# Altium footprint library ADCLK854BCPZ.PcbLib: 3 footprints
Each footprint in its own frame and in the unit in brackets; x right, y up, seen from the top. Pads: shape width x height; smd on the part's side, far side on the other; paste and mask are expansions set on the pad; w line width, h text height; cw(c..) or ccw(c..) is an arc to the next point about the centre after c.
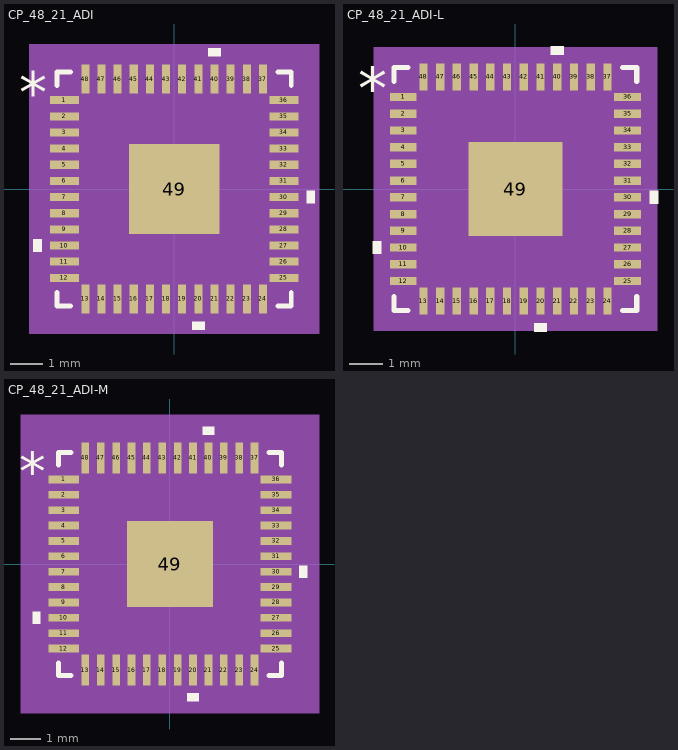
[diagram p0: the footprints below, top view; thin cyan lines are the x and y axes]

## CP_48_21_ADI [mm]
pads (49):
  rect 0.9x0.25 smd paste+0 mask+0: 1(-3.4,2.75) 2(-3.4,2.25) 3(-3.4,1.75) 4(-3.4,1.25) 5(-3.4,0.75) 6(-3.4,0.25) 7(-3.4,-0.25) 8(-3.4,-0.75) 9(-3.4,-1.25) 10(-3.4,-1.75) 11(-3.4,-2.25) 12(-3.4,-2.75) 25(3.4,-2.75) 26(3.4,-2.25) 27(3.4,-1.75) 28(3.4,-1.25) 29(3.4,-0.75) 30(3.4,-0.25) 31(3.4,0.25) 32(3.4,0.75) 33(3.4,1.25) 34(3.4,1.75) 35(3.4,2.25) 36(3.4,2.75)
  rect 0.25x0.9 smd paste+0 mask+0: 13(-2.75,-3.4) 14(-2.25,-3.4) 15(-1.75,-3.4) 16(-1.25,-3.4) 17(-0.75,-3.4) 18(-0.25,-3.4) 19(0.25,-3.4) 20(0.75,-3.4) 21(1.25,-3.4) 22(1.75,-3.4) 23(2.25,-3.4) 24(2.75,-3.4) 37(2.75,3.4) 38(2.25,3.4) 39(1.75,3.4) 40(1.25,3.4) 41(0.75,3.4) 42(0.25,3.4) 43(-0.25,3.4) 44(-0.75,3.4) 45(-1.25,3.4) 46(-1.75,3.4) 47(-2.25,3.4) 48(-2.75,3.4)
  rect 2.8x2.8 smd paste-1.387 mask+0: 49(0,0)
Top Overlay:
  region: -4.104,-1.559 -4.358,-1.559 -4.358,-1.94 -4.104,-1.94
  region: 0.941,-4.104 0.56,-4.104 0.56,-4.358 0.941,-4.358
  region: 4.104,-0.059 4.358,-0.059 4.358,-0.44 4.104,-0.44
  region: 1.441,4.104 1.06,4.104 1.06,4.358 1.441,4.358
  lines w0.152: -3.627,-3.208 -3.627,-3.627 -3.208,-3.627 ; -3.627,3.208 -3.627,3.627 -3.208,3.627 ; 3.208,-3.627 3.627,-3.627 3.627,-3.208 ; 3.208,3.627 3.627,3.627 3.627,3.208
  text "*" at -4.802,2.365 h1.27
Top Paste:
  region: -0.1,1.3 -1.3,1.3 -1.3,0.1 -0.1,0.1
  region: -0.1,-0.1 -1.3,-0.1 -1.3,-1.3 -0.1,-1.3
  region: 1.3,1.3 0.1,1.3 0.1,0.1 1.3,0.1
  region: 1.3,-0.1 0.1,-0.1 0.1,-1.3 1.3,-1.3
Mechanical 5:
  region: 4.485,-4.485 -4.485,-4.485 -4.485,4.485 4.485,4.485
Mechanical 13:
  drawing of 201 lines, arcs and shapes, not listed
  text "*" at -3.267,2.365 h1.27
Mechanical 15:
  region: -3.129,-3.754 -3.754,-3.754 -3.754,-3.129 -4.104,-3.129 -4.104,3.129 -3.754,3.129 -3.754,3.754 -3.129,3.754 -3.129,4.104 3.129,4.104 3.129,3.754 3.754,3.754 3.754,3.129 4.104,3.129 4.104,-3.129 3.754,-3.129 3.754,-3.754 3.129,-3.754 3.129,-4.104 -3.129,-4.104
  lines w0.152: -4.104,-3.129 -3.754,-3.129 -3.754,-3.754 -3.129,-3.754 -3.129,-4.104 3.129,-4.104 3.129,-3.754 3.754,-3.754 3.754,-3.129 4.104,-3.129 4.104,3.129 3.754,3.129 3.754,3.754 3.129,3.754 3.129,4.104 -3.129,4.104 -3.129,3.754 -3.754,3.754 -3.754,3.129 -4.104,3.129 -4.104,-3.129
3D body "CP_48_21_ADI.step": height 0.8, standoff 0, extent -3.55,-3.55 3.55,3.55

## CP_48_21_ADI-L [mm]
pads (49):
  rect 0.803x0.249 smd paste+0 mask+0: 1(-3.352,2.75) 2(-3.352,2.25) 3(-3.352,1.75) 4(-3.352,1.25) 5(-3.352,0.75) 6(-3.352,0.25) 7(-3.352,-0.25) 8(-3.352,-0.75) 9(-3.352,-1.25) 10(-3.352,-1.75) 11(-3.352,-2.25) 12(-3.352,-2.75) 25(3.352,-2.75) 26(3.352,-2.25) 27(3.352,-1.75) 28(3.352,-1.25) 29(3.352,-0.75) 30(3.352,-0.25) 31(3.352,0.25) 32(3.352,0.75) 33(3.352,1.25) 34(3.352,1.75) 35(3.352,2.25) 36(3.352,2.75)
  rect 0.249x0.803 smd paste+0 mask+0: 13(-2.75,-3.352) 14(-2.25,-3.352) 15(-1.75,-3.352) 16(-1.25,-3.352) 17(-0.75,-3.352) 18(-0.25,-3.352) 19(0.25,-3.352) 20(0.75,-3.352) 21(1.25,-3.352) 22(1.75,-3.352) 23(2.25,-3.352) 24(2.75,-3.352) 37(2.75,3.352) 38(2.25,3.352) 39(1.75,3.352) 40(1.25,3.352) 41(0.75,3.352) 42(0.25,3.352) 43(-0.25,3.352) 44(-0.75,3.352) 45(-1.25,3.352) 46(-1.75,3.352) 47(-2.25,3.352) 48(-2.75,3.352)
  rect 2.8x2.8 smd paste-1.387 mask+0: 49(0,0)
Top Overlay:
  region: -4.007,-1.559 -4.261,-1.559 -4.261,-1.94 -4.007,-1.94
  region: 0.941,-4.007 0.56,-4.007 0.56,-4.261 0.941,-4.261
  region: 4.007,-0.059 4.261,-0.059 4.261,-0.44 4.007,-0.44
  region: 1.441,4.007 1.06,4.007 1.06,4.261 1.441,4.261
  lines w0.152: -3.627,-3.207 -3.627,-3.627 -3.207,-3.627 ; -3.627,3.207 -3.627,3.627 -3.207,3.627 ; 3.207,-3.627 3.627,-3.627 3.627,-3.207 ; 3.207,3.627 3.627,3.627 3.627,3.207
  text "*" at -4.706,2.365 h1.27
Top Paste:
  region: -0.1,1.3 -1.3,1.3 -1.3,0.1 -0.1,0.1
  region: -0.1,-0.1 -1.3,-0.1 -1.3,-1.3 -0.1,-1.3
  region: 1.3,1.3 0.1,1.3 0.1,0.1 1.3,0.1
  region: 1.3,-0.1 0.1,-0.1 0.1,-1.3 1.3,-1.3
Mechanical 5:
  region: 4.236,-4.236 -4.236,-4.236 -4.236,4.236 4.236,4.236
Mechanical 13:
  drawing of 201 lines, arcs and shapes, not listed
  text "*" at -3.267,2.365 h1.27
Mechanical 15:
  region: -2.976,-3.602 -3.602,-3.602 -3.602,-2.976 -3.855,-2.976 -3.855,2.976 -3.602,2.976 -3.602,3.602 -2.976,3.602 -2.976,3.855 2.976,3.855 2.976,3.602 3.602,3.602 3.602,2.976 3.855,2.976 3.855,-2.976 3.602,-2.976 3.602,-3.602 2.976,-3.602 2.976,-3.855 -2.976,-3.855
  lines w0.152: -3.855,-2.976 -3.602,-2.976 -3.602,-3.602 -2.976,-3.602 -2.976,-3.855 2.976,-3.855 2.976,-3.602 3.602,-3.602 3.602,-2.976 3.855,-2.976 3.855,2.976 3.602,2.976 3.602,3.602 2.976,3.602 2.976,3.855 -2.976,3.855 -2.976,3.602 -3.602,3.602 -3.602,2.976 -3.855,2.976 -3.855,-2.976
3D body "CP_48_21_ADI.step": height 0.8, standoff 0, extent -3.55,-3.55 3.55,3.55

## CP_48_21_ADI-M [mm]
pads (49):
  rect 1.006x0.249 smd paste+0 mask+0: 1(-3.453,2.75) 2(-3.453,2.25) 3(-3.453,1.75) 4(-3.453,1.25) 5(-3.453,0.75) 6(-3.453,0.25) 7(-3.453,-0.25) 8(-3.453,-0.75) 9(-3.453,-1.25) 10(-3.453,-1.75) 11(-3.453,-2.25) 12(-3.453,-2.75) 25(3.453,-2.75) 26(3.453,-2.25) 27(3.453,-1.75) 28(3.453,-1.25) 29(3.453,-0.75) 30(3.453,-0.25) 31(3.453,0.25) 32(3.453,0.75) 33(3.453,1.25) 34(3.453,1.75) 35(3.453,2.25) 36(3.453,2.75)
  rect 0.249x1.006 smd paste+0 mask+0: 13(-2.75,-3.453) 14(-2.25,-3.453) 15(-1.75,-3.453) 16(-1.25,-3.453) 17(-0.75,-3.453) 18(-0.25,-3.453) 19(0.25,-3.453) 20(0.75,-3.453) 21(1.25,-3.453) 22(1.75,-3.453) 23(2.25,-3.453) 24(2.75,-3.453) 37(2.75,3.453) 38(2.25,3.453) 39(1.75,3.453) 40(1.25,3.453) 41(0.75,3.453) 42(0.25,3.453) 43(-0.25,3.453) 44(-0.75,3.453) 45(-1.25,3.453) 46(-1.75,3.453) 47(-2.25,3.453) 48(-2.75,3.453)
  rect 2.8x2.8 smd paste-1.387 mask+0: 49(0,0)
Top Overlay:
  region: -4.21,-1.559 -4.464,-1.559 -4.464,-1.94 -4.21,-1.94
  region: 0.941,-4.21 0.56,-4.21 0.56,-4.464 0.941,-4.464
  region: 4.21,-0.059 4.464,-0.059 4.464,-0.44 4.21,-0.44
  region: 1.441,4.21 1.06,4.21 1.06,4.464 1.441,4.464
  lines w0.152: -3.627,-3.207 -3.627,-3.627 -3.207,-3.627 ; -3.627,3.207 -3.627,3.627 -3.207,3.627 ; 3.207,-3.627 3.627,-3.627 3.627,-3.207 ; 3.207,3.627 3.627,3.627 3.627,3.207
  text "*" at -4.909,2.365 h1.27
Top Paste:
  region: -0.1,1.3 -1.3,1.3 -1.3,0.1 -0.1,0.1
  region: -0.1,-0.1 -1.3,-0.1 -1.3,-1.3 -0.1,-1.3
  region: 1.3,1.3 0.1,1.3 0.1,0.1 1.3,0.1
  region: 1.3,-0.1 0.1,-0.1 0.1,-1.3 1.3,-1.3
Mechanical 5:
  region: 4.845,-4.845 -4.845,-4.845 -4.845,4.845 4.845,4.845
Mechanical 13:
  drawing of 201 lines, arcs and shapes, not listed
  text "*" at -3.267,2.365 h1.27
Mechanical 15:
  region: -3.383,-4.008 -4.008,-4.008 -4.008,-3.383 -4.464,-3.383 -4.464,3.383 -4.008,3.383 -4.008,4.008 -3.383,4.008 -3.383,4.464 3.383,4.464 3.383,4.008 4.008,4.008 4.008,3.383 4.464,3.383 4.464,-3.383 4.008,-3.383 4.008,-4.008 3.383,-4.008 3.383,-4.464 -3.383,-4.464
  lines w0.152: -4.464,-3.383 -4.008,-3.383 -4.008,-4.008 -3.383,-4.008 -3.383,-4.464 3.383,-4.464 3.383,-4.008 4.008,-4.008 4.008,-3.383 4.464,-3.383 4.464,3.383 4.008,3.383 4.008,4.008 3.383,4.008 3.383,4.464 -3.383,4.464 -3.383,4.008 -4.008,4.008 -4.008,3.383 -4.464,3.383 -4.464,-3.383
3D body "CP_48_21_ADI.step": height 0.8, standoff 0, extent -3.55,-3.55 3.55,3.55